# Altium footprint library VESC_6.4.PcbLib: 30 footprints (part 1 of 2)
Each footprint in its own frame and in the unit in brackets; x right, y up, seen from the top. Pads: shape width x height; smd on the part's side, far side on the other; paste and mask are expansions set on the pad; w line width, h text height; cw(c..) or ccw(c..) is an arc to the next point about the centre after c.
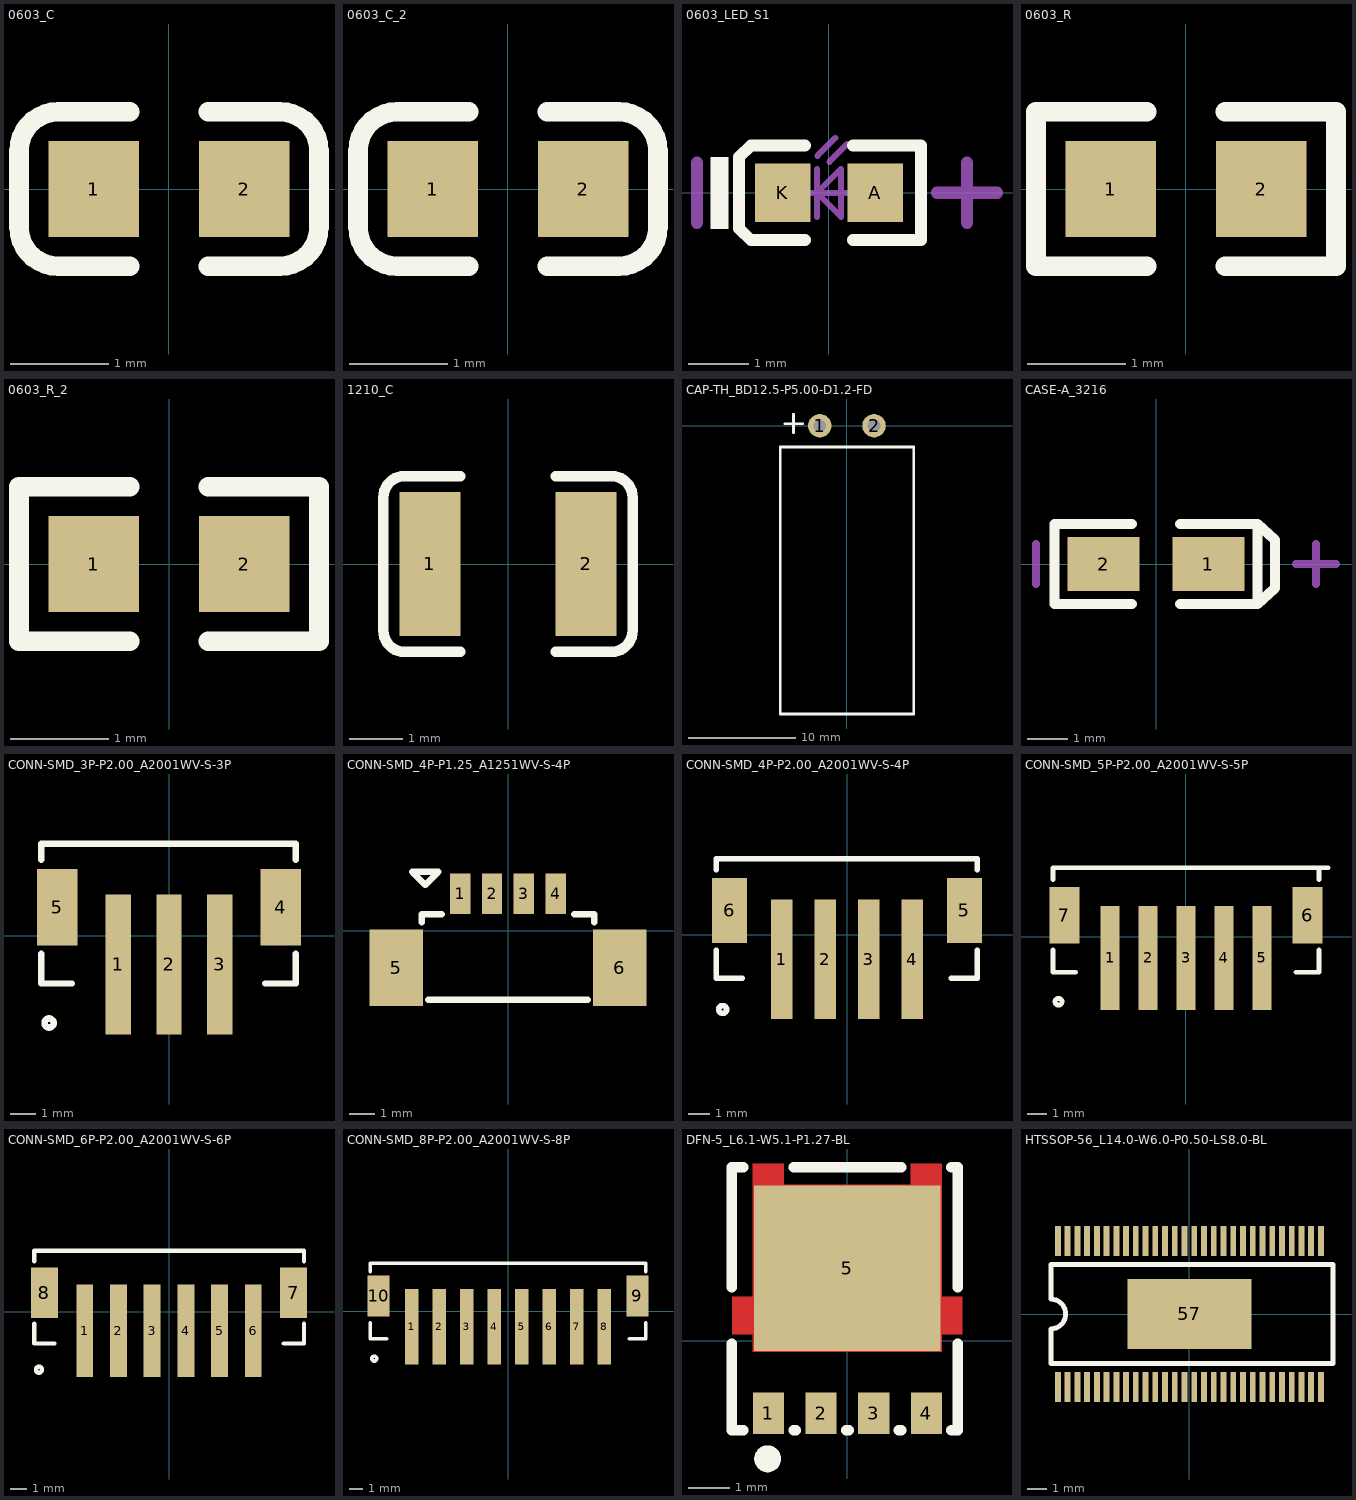
[diagram p0: the footprints below, top view; thin cyan lines are the x and y axes]

## 0603_C [mm]
pads (2):
  rect 0.93x0.98 smd: 1(-0.77,0) 2(0.77,0)
Top Overlay:
  lines w0.2: -0.4,-0.79 -1.135,-0.79 cw(c-1.135,-0.39) -1.535,-0.39 -1.535,0.39 cw(c-1.135,0.39) -1.135,0.79 -0.4,0.79 ; 0.4,-0.79 1.135,-0.79 ccw(c1.135,-0.39) 1.535,-0.39 1.535,0.39 ccw(c1.135,0.39) 1.135,0.79 0.4,0.79
3D body "User Library-0603 SMD Capacitor.STEP": height 0.3, standoff 0, extent -0.8,-0.4 0.8,0.4

## 0603_C_2 [mm]
pads (2):
  rect 0.93x0.98 smd: 1(-0.77,0) 2(0.77,0)
Top Overlay:
  lines w0.2: -0.4,-0.79 -1.135,-0.79 cw(c-1.135,-0.39) -1.535,-0.39 -1.535,0.39 cw(c-1.135,0.39) -1.135,0.79 -0.4,0.79 ; 0.4,-0.79 1.135,-0.79 ccw(c1.135,-0.39) 1.535,-0.39 1.535,0.39 ccw(c1.135,0.39) 1.135,0.79 0.4,0.79
3D body "User Library-0603 SMD Capacitor.STEP": height 0.3, standoff 0, extent -0.8,-0.4 0.8,0.4

## 0603_LED_S1 [mm]
pads (2):
  rect 0.93x0.98 smd: A(0.77,0) K(-0.77,0)
Top Overlay:
  rectangle: -1.975,-0.6 -1.675,0.6
  lines w0.2: -0.4,-0.79 -1.3,-0.79 -1.5,-0.597 -1.5,0.597 -1.3,0.79 -0.4,0.79 ; 0.4,-0.79 1.535,-0.79 1.535,0.79 0.4,0.79
Mechanical 13:
  lines w0.1: -0.4,0 0.4,0 ; -0.2,-0.4 -0.2,0.4 ; -0.195,0.617 0.105,0.917 ; 0.005,0.517 0.305,0.817 ; -0.2,0 0.2,0.4 0.2,-0.4 -0.2,0
Mechanical 15:
  lines w0.203: -2.2,-0.5 -2.2,0.5 ; 1.8,0 2.8,0 ; 2.3,-0.5 2.3,0.5
3D body "User Library-LED_0603_R.STEP": height 0.6, standoff 0, extent -0.8,-0.4 0.8,0.4

## 0603_R [mm]
pads (2):
  rect 0.93x0.98 smd: 1(-0.77,0) 2(0.77,0)
Top Overlay:
  lines w0.2: -0.4,-0.79 -1.535,-0.79 -1.535,0.79 -0.4,0.79 ; 0.4,-0.79 1.535,-0.79 1.535,0.79 0.4,0.79
3D body "User Library-RES_1609-0603.STEP": height 0.56, standoff 0, extent -0.85,-0.4 0.85,0.4

## 0603_R_2 [mm]
pads (2):
  rect 0.93x0.98 smd: 1(-0.77,0) 2(0.77,0)
Top Overlay:
  lines w0.2: -0.4,-0.79 -1.535,-0.79 -1.535,0.79 -0.4,0.79 ; 0.4,-0.79 1.535,-0.79 1.535,0.79 0.4,0.79
3D body "User Library-RES_1609-0603.STEP": height 0.56, standoff 0, extent -0.85,-0.4 0.85,0.4

## 1210_C [mm]
pads (2):
  rect 1.16x2.72 smd: 1(-1.475,0) 2(1.475,0)
Top Overlay:
  lines w0.2: -0.9,-1.66 -1.955,-1.66 cw(c-1.955,-1.26) -2.355,-1.26 -2.355,1.26 cw(c-1.955,1.26) -1.955,1.66 -0.9,1.66 ; 0.9,-1.66 1.955,-1.66 ccw(c1.955,-1.26) 2.355,-1.26 2.355,1.26 ccw(c1.955,1.26) 1.955,1.66 0.9,1.66
3D body "User Library-cap_1210_lowprofile.step": height 1.3, standoff 0, extent -1.6,-1.25 1.6,1.25

## CAP-TH_BD12.5-P5.00-D1.2-FD [mm]
pads (2):
  round 2.2 hole 1.2: 1(-2.54,0) 2(2.54,0)
Top Overlay:
  lines w0.254: -5.817,0.178 -4.14,0.178 ; -5.004,-0.66 -5.004,1.067 ; -6.24,-27 6.26,-27 6.26,-2 -6.24,-2 -6.24,-27
3D body "User Library-CapAluRadial_D125H250.STEP": height 6.5, standoff -6.5, extent -6.5,-28.775 6.5,1.225

## CASE-A_3216 [mm]
pads (2):
  rect 1.8x1.35 smd: 1(1.31,0) 2(-1.31,0)
Top Overlay:
  lines w0.254: -0.6,-1.002 -2.537,-1.002 -2.537,1.002 -0.6,1.002 ; 0.6,-1.002 2.537,-1.002 ; 0.6,1.002 2.537,1.002 ; 2.537,-1.002 2.537,1.002 ; 2.537,-1.002 2.973,-0.6 2.973,0.6 2.537,1.002
Mechanical 15:
  lines w0.203: -3,-0.5 -3,0.5 ; 3.5,0 4.5,0 ; 4,-0.5 4,0.5
3D body "User Library-AVX_ACASE.STEP": height 1.71, standoff 0, extent -1.7,-0.84 1.7,0.84

## CONN-SMD_3P-P2.00_A2001WV-S-3P [mm]
pads (5):
  rect 1x5.5 smd: 1(-2,-1.125) 2(0,-1.125) 3(2,-1.125)
  rect 1.6x3 smd: 4(4.4,1.125) 5(-4.4,1.125)
Top Overlay:
  circle w0.254: c-4.716,-3.429 r0.18
  lines w0.254: -5.017,-0.7 -5.017,-1.875 -3.817,-1.875 ; -5.017,3 -5.017,3.625 4.983,3.625 4.984,3 ; 3.784,-1.875 4.984,-1.875 4.984,-0.7
3D body "User Library-DS1066-04-3MSV6.STEP": height 6.5, standoff 0, extent -5.016,-3.775 4.983,3.625

## CONN-SMD_4P-P1.25_A1251WV-S-4P [mil]
pads (6):
  rect 31.5x63 smd: 1(-73.84,57.08) 2(-24.64,57.08) 3(24.55,57.08) 4(73.75,57.08)
  rect 82.7x118.1 smd: 5(-172.25,-57.07) 6(172.24,-57.07)
Top Overlay:
  lines w10: -132.88,12.79 -132.88,25.59 -102.36,25.59 ; -123.03,-106.28 123.03,-106.28 ; 102.36,25.59 132.87,25.59 132.87,12.79 ; -147.64,90.57 -107.64,90.57 -127.64,70.57 -147.64,90.57
3D body "User Library-MX1_25-4P.STEP": height 187.01, standoff 0, extent -201.15,-104.33 201.15,49.21

## CONN-SMD_4P-P2.00_A2001WV-S-4P [mm]
pads (6):
  rect 1x5.5 smd: 1(-3,-1.125) 2(-1,-1.125) 3(1,-1.125) 4(3,-1.125)
  rect 1.6x3 smd: 5(5.4,1.125) 6(-5.4,1.125)
Top Overlay:
  circle w0.254: c-5.716,-3.429 r0.18
  lines w0.254: -6.009,-0.709 -6.009,-2 -4.809,-2 ; -6.009,3.009 -6.009,3.5 5.991,3.5 5.992,3.009 ; 4.792,-2 5.992,-2 5.992,-0.709
3D body "User Library-DS1066-04-4MSV6.STEP": height 6.5, standoff 0, extent -6.009,-3.9 5.991,3.5

## CONN-SMD_5P-P2.00_A2001WV-S-5P [mm]
pads (7):
  rect 1x5.5 smd: 1(-4,-1.125) 2(-2,-1.125) 3(0,-1.125) 4(2,-1.125) 5(4,-1.125)
  rect 1.6x3 smd: 6(6.4,1.125) 7(-6.4,1.125)
Top Overlay:
  circle w0.254: c-6.716,-3.429 r0.18
  lines w0.254: -7.002,-0.7 -7.002,-1.875 -5.802,-1.875 ; -7.002,3 -7.002,3.625 7.493,3.625 ; 5.798,-1.875 6.998,-1.875 6.998,-0.7 ; 6.998,3 6.998,3.625
3D body "User Library-DS1066-04-5MSV6.STEP": height 6.5, standoff 0, extent -7.002,-3.775 6.998,3.625

## CONN-SMD_6P-P2.00_A2001WV-S-6P [mm]
pads (8):
  rect 1x5.5 smd: 1(-5,-1.125) 2(-3,-1.125) 3(-1,-1.125) 4(1,-1.125) 5(3,-1.125) 6(5,-1.125)
  rect 1.6x3 smd: 7(7.4,1.125) 8(-7.4,1.125)
Top Overlay:
  circle w0.254: c-7.716,-3.429 r0.18
  lines w0.254: -7.992,-0.7 -7.992,-1.875 -6.792,-1.875 ; -7.992,3 -7.992,3.625 8.008,3.625 8.008,3 ; 6.808,-1.875 8.008,-1.875 8.008,-0.7
3D body "User Library-DS1066-04-6MSV6.STEP": height 6.5, standoff 0, extent -7.992,-3.775 8.008,3.625

## CONN-SMD_8P-P2.00_A2001WV-S-8P [mm]
pads (10):
  rect 1x5.5 smd: 1(-7,-1.125) 2(-5,-1.125) 3(-3,-1.125) 4(-1,-1.125) 5(1,-1.125) 6(3,-1.125) 7(5,-1.125) 8(7,-1.125)
  rect 1.6x3 smd: 9(9.4,1.125) 10(-9.4,1.125)
Top Overlay:
  circle w0.254: c-9.716,-3.429 r0.18
  lines w0.254: -10,-0.825 -10,-2 -8.8,-2 ; -10,2.875 -10,3.5 10,3.5 10,2.875 ; 8.8,-2 10,-2 10,-0.825
3D body "User Library-DS1066-04-4MSV6.STEP": height 6.5, standoff 0, extent -10,-3.9 2,3.5
3D body "User Library-DS1066-04-4MSV6.STEP": height 6.5, standoff 0, extent -2,-3.9 10,3.5

## DFN-5_L6.1-W5.1-P1.27-BL [mm]
pads (5):
  rect 0.75x1 smd: 1(-1.905,-1.75) 2(-0.635,-1.75) 3(0.635,-1.75) 4(1.905,-1.75)
  rect 4.5x4 smd: 5(0,1.75)
Top Layer:
  region: -2.28,-0.265 -2.28,0.16 -2.775,0.16 -2.775,1.065 -2.28,1.065 -2.28,4.265 -1.53,4.265 -1.53,3.765 1.53,3.765 1.53,4.265 2.28,4.265 2.28,1.065 2.775,1.065 2.775,0.16 2.28,0.16 2.28,-0.265
Top Overlay:
  lines w0.254: -2.794,-0.07 -2.794,-2.161 -2.511,-2.161 ; -2.794,1.295 -2.794,4.189 -2.511,4.189 ; -1.299,-2.161 -1.241,-2.161 ; -1.299,4.189 1.299,4.189 ; -0.029,-2.161 0.029,-2.161 ; 1.241,-2.161 1.299,-2.161 ; 2.511,-2.161 2.667,-2.161 2.667,-0.071 ; 2.511,4.189 2.667,4.189 2.667,1.296
  lines w0.399: -1.8,-2.848 cw(c-1.924,-2.846) -1.8,-2.845
Top Paste:
  region: -2.28,-0.265 -2.28,0.16 -2.775,0.16 -2.775,1.065 -2.28,1.065 -2.28,4.265 -1.53,4.265 -1.53,3.765 1.53,3.765 1.53,4.265 2.28,4.265 2.28,1.065 2.775,1.065 2.775,0.16 2.28,0.16 2.28,-0.265
Top Solder:
  region: -2.28,-0.265 -2.28,0.16 -2.775,0.16 -2.775,1.065 -2.28,1.065 -2.28,4.265 -1.53,4.265 -1.53,3.765 1.53,3.765 1.53,4.265 2.28,4.265 2.28,1.065 2.775,1.065 2.775,0.16 2.28,0.16 2.28,-0.265
3D body "User Library-DFN5x6_SO8FL.STEP": height 1.13, standoff 0, extent -2.575,-2.05 2.575,4.1

## HTSSOP-56_L14.0-W6.0-P0.50-LS8.0-BL [mm]
pads (57):
  rect 0.3x1.55 smd: 1(-6.75,-3.75) 2(-6.25,-3.75) 3(-5.75,-3.75) 4(-5.25,-3.75) 5(-4.75,-3.75) 6(-4.25,-3.75) 7(-3.75,-3.75) 8(-3.25,-3.75) 9(-2.75,-3.75) 10(-2.25,-3.75) 11(-1.75,-3.75) 12(-1.25,-3.75) 13(-0.75,-3.75) 14(-0.25,-3.75) 15(0.25,-3.75) 16(0.75,-3.75) 17(1.25,-3.75) 18(1.75,-3.75) 19(2.25,-3.75) 20(2.75,-3.75) 21(3.25,-3.75) 22(3.75,-3.75) 23(4.25,-3.75) 24(4.75,-3.75) 25(5.25,-3.75) 26(5.75,-3.75) 27(6.25,-3.75) 28(6.75,-3.75) 29(6.75,3.75) 30(6.25,3.75) 31(5.75,3.75) 32(5.25,3.75) 33(4.75,3.75) 34(4.25,3.75) 35(3.75,3.75) 36(3.25,3.75) 37(2.75,3.75) 38(2.25,3.75) 39(1.75,3.75) 40(1.25,3.75) 41(0.75,3.75) 42(0.25,3.75) 43(-0.25,3.75) 44(-0.75,3.75) 45(-1.25,3.75) 46(-1.75,3.75) 47(-2.25,3.75) 48(-2.75,3.75) 49(-3.25,3.75) 50(-3.75,3.75) 51(-4.25,3.75) 52(-4.75,3.75) 53(-5.25,3.75) 54(-5.75,3.75) 55(-6.25,3.75) 56(-6.75,3.75)
  rect 6.35x3.61 smd: 57(0,0)
Top Overlay:
  lines w0.254: -7.112,-2.54 7.366,-2.54 7.366,2.54 -7.112,2.54 -7.112,0.762 cw(c-7.112,0) -7.112,-0.762 -7.112,-2.54
3D body "User Library-HTSSOP-56.STEP": height 1.1, standoff 0, extent -7,-4.1 7,4.1